# EAGLE library part 350 (library display-lcd-lxd)
8 AlphaNumerical Digit, .275" (6.99) Multiplexed Display Additional Descriptors: none
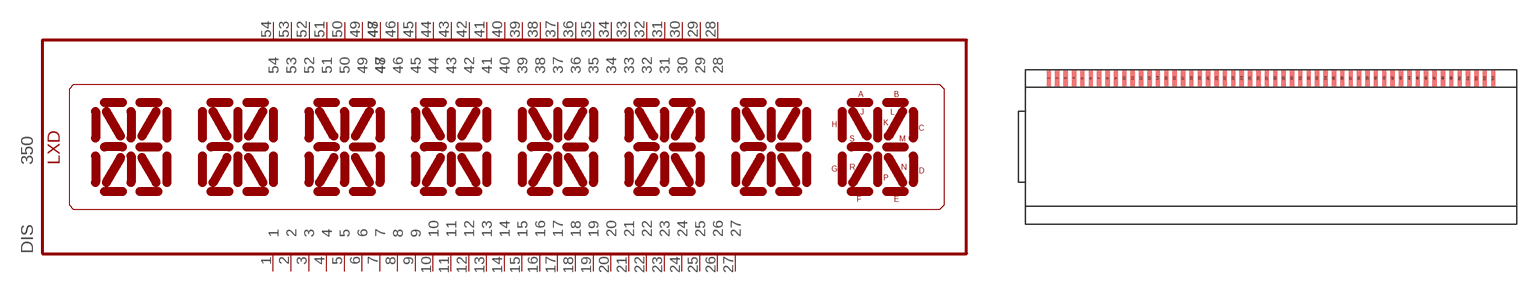
[diagram p36: symbol with the pads of 350-E; footprint 350-E]

Designator prefix DIS

## 350SMD  [350-E]
1  1  pas
2  2  pas
3  3  pas
4  4  pas
5  5  pas
6  6  pas
7  7  pas
8  8  pas
9  9  pas
10  10  pas
11  11  pas
12  12  pas
13  13  pas
14  14  pas
15  15  pas
16  16  pas
17  17  pas
18  18  pas
19  19  pas
20  20  pas
21  21  pas
22  22  pas
23  23  pas
24  24  pas
25  25  pas
26  26  pas
27  27  pas
28  28  pas
29  29  pas
30  30  pas
31  31  pas
32  32  pas
33  33  pas
34  34  pas
35  35  pas
36  36  pas
37  37  pas
38  38  pas
39  39  pas
40  40  pas
41  41  pas
42  42  pas
43  43  pas
44  44  pas
45  45  pas
46  46  pas
47  47  pas
48  48  pas
49  49  pas
50  50  pas
51  51  pas
52  52  pas
53  53  pas
54  54  pas

## Footprint 350-E (pad centres in mm)
Glass Size: 2.765" x 0.866" &nbsp &nbsp &nbsp &nbsp &nbsp &nbsp &nbsp &nbsp &nbsp (70.23 x 22.00)
smd 0.61 x 2.438: 1 -31.648,9.754; 2 -30.455,9.754; 3 -29.261,9.754; 4 -28.067,9.754; 5 -26.873,9.754; 6 -25.679,9.754; 7 -24.486,9.754; 8 -23.292,9.754; 9 -22.098,9.754; 10 -20.904,9.754; 11 -19.71,9.754; 12 -18.517,9.754; 13 -17.323,9.754; 14 -16.129,9.754; 15 -14.935,9.754; 16 -13.741,9.754; 17 -12.548,9.754; 18 -11.354,9.754; 19 -10.16,9.754; 20 -8.966,9.754; 21 -7.772,9.754; 22 -6.579,9.754; 23 -5.385,9.754; 24 -4.191,9.754; 25 -2.997,9.754; 26 -1.803,9.754; 27 -0.61,9.754; 28 0.584,9.754; 29 1.778,9.754; 30 2.972,9.754; 31 4.166,9.754; 32 5.359,9.754; 33 6.553,9.754; 34 7.747,9.754; 35 8.941,9.754; 36 10.135,9.754; 37 11.328,9.754; 38 12.522,9.754; 39 13.716,9.754; 40 14.91,9.754; 41 16.104,9.754; 42 17.297,9.754; 43 18.491,9.754; 44 19.685,9.754; 45 20.879,9.754; 46 22.073,9.754; 47 23.266,9.754; 48 24.46,9.754; 49 25.654,9.754; 50 26.848,9.754; 51 28.042,9.754; 52 29.235,9.754; 53 30.429,9.754; 54 31.623,9.754